# Altium footprint library User-Submitted.PCBLIB: 9 footprints
Each footprint in its own frame and in the unit in brackets; x right, y up, seen from the top. Pads: shape width x height; smd on the part's side, far side on the other; paste and mask are expansions set on the pad; w line width, h text height; cw(c..) or ccw(c..) is an arc to the next point about the centre after c.
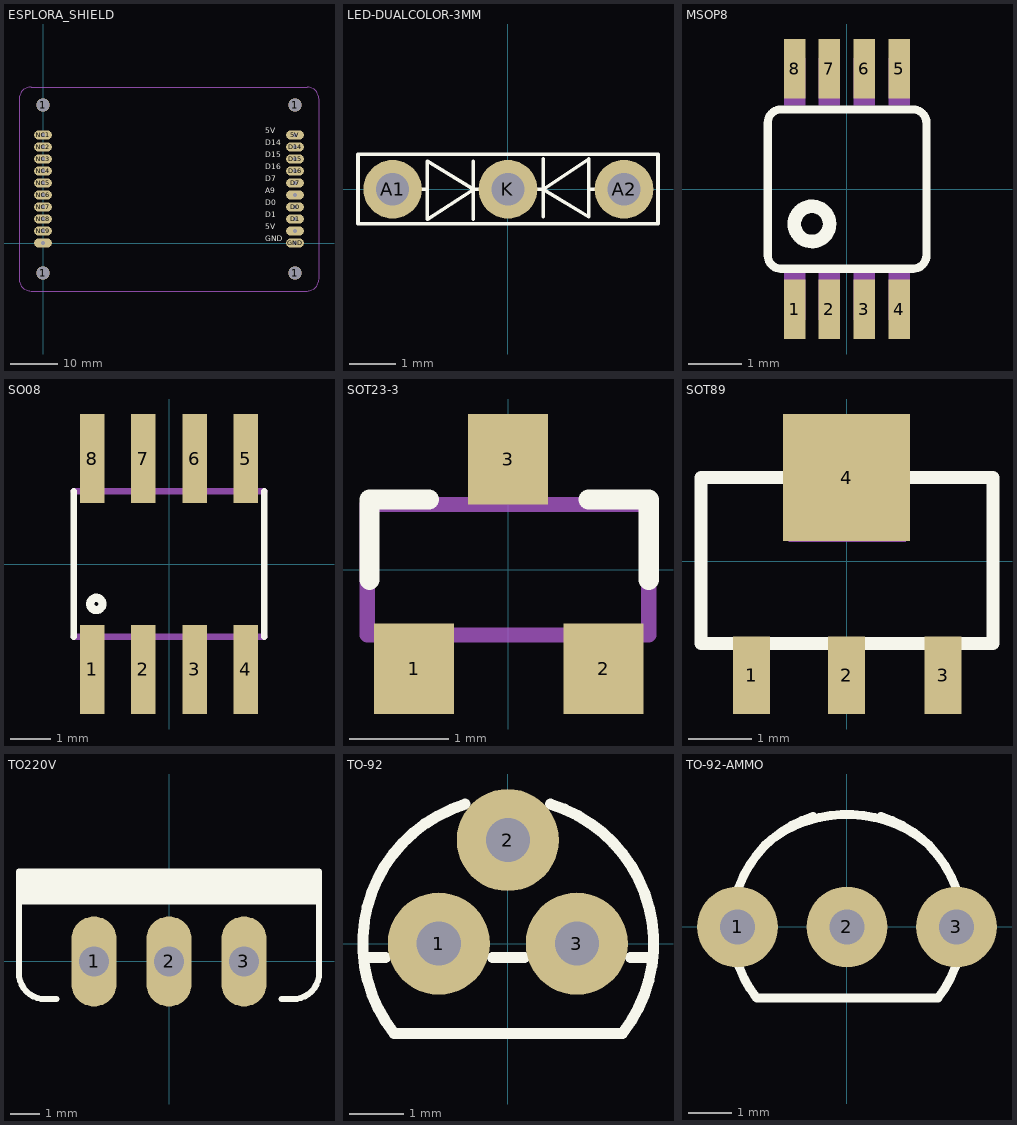
[diagram p0: the footprints below, top view; thin cyan lines are the x and y axes]

## ESPLORA_SHIELD [mil]
pads (24):
  round 111 hole 111: 1(0,-250) 1(0,1150) 1(2100,-250) 1(2100,1150)
  oval 148x74 hole 32: 5V(2100,900) 5V-1(2100,100) D0(2100,300) D1(2100,200) D7(2100,500) D8/A9(2100,400) D14(2100,800) D15(2100,700) D16(2100,600) GND(2100,0) NC1(0,900) NC2(0,800) NC3(0,700) NC4(0,600) NC5(0,500) NC6(0,400) NC7(0,300) NC8(0,200) NC9(0,100) NC10(0,0)
Top Overlay:
  text "5V" at 1850,900 h77.5
  text "D14" at 1850,800 h77.5
  text "D15" at 1850,700 h77.5
  text "D16" at 1850,600 h77.5
  text "D7" at 1850,500 h77.5
  text "A9" at 1850,400 h77.5
  text "D0" at 1850,300 h77.5
  text "D1" at 1850,200 h77.5
  text "5V" at 1850,100 h77.5
  text "GND" at 1850,0 h77.5
Mechanical 1:
  lines w5: -200,-300 -200,1200 cw(c-100,1200) -100,1300 2200,1300 cw(c2200,1200) 2300,1200 2300,-300 cw(c2200,-300) 2200,-400 -100,-400 cw(c-100,-300) -200,-300

## LED-DUALCOLOR-3MM [mil]
pads (3):
  round 50 hole 28: A1(-98.43,0) A2(99,0) K(0,0)
Top Overlay:
  lines w3: -78.74,0 -68.9,0 ; -29.53,-25.59 -29.53,0 ; -29.53,24 -29.53,0 ; -19.68,0 -29.53,0 ; 20,0 30,0 ; 30,-23.62 30,0 ; 30,26 30,0 ; 79,0 69,0 ; -68.9,0 -68.9,24 -29.53,0 ; -68.9,0 -68.9,-25.59 -29.53,0 ; 30,0 69,26 69,0 ; 30,0 69,-23.62 69,0 ; -127.95,-29.53 128,-29.53 128,30 -127.95,30 -127.95,-29.53

## MSOP8 [mil]
pads (8):
  rect 16x44 smd: 1(-38.39,-88.58) 2(-12.8,-88.58) 3(13,-88.58) 4(39,-88.58) 5(39,89) 6(13,89) 7(-12.8,89) 8(-38.39,89)
Top Overlay:
  circle w10: c-25.59,-25.59 r13
  lines w6: -58.27,-48.82 ccw(c-48.43,-48.82) -48.43,-58.66 ; -58.27,-48.43 -58.27,49 cw(c-48.35,49.08) -48.43,59 ; -48.03,-58.66 49,-58.66 ccw(c49.08,-48.74) 59,-48.82 59,49 ccw(c49,49) 49,59 -48.03,59
Mechanical 2:
  text ">NAME" at -100,-50 h24.8
Mechanical 4:
  text ">VALUE" at 100,-50 h24.8
Mechanical 16:
  rectangle: -46.26,-96.46 -30.51,-61.02
  rectangle: -20.67,-96.46 -4.92,-61.02
  rectangle: 5,-96.46 21,-61.02
  rectangle: 31,-96.46 47,-61.02
  rectangle: 31,62 47,97
  rectangle: 5,62 21,97
  rectangle: -20.67,62 -4.92,97
  rectangle: -46.26,62 -30.51,97

## SO08 [mil]
pads (8):
  rect 24x87 smd: 1(-75,-103) 2(-25,-103) 3(25,-103) 4(75,-103) 5(75,103) 6(25,103) 7(-25,103) 8(-75,103)
Top Overlay:
  circle w8: c-71,-39 r6
  lines w6: -92.99,-70.98 -92.99,71 ; 93,-70.98 93,71
Mechanical 2:
  text ">NAME" at -50,0 h24.8
Mechanical 4:
  text ">VALUE" at -50,-25 h24.8
Mechanical 16:
  rectangle: -82,-113 -68,-73
  rectangle: -32,-113 -18,-73
  rectangle: 18,-113 32,-73
  rectangle: 68,-113 82,-73
  rectangle: -82,73 -68,113
  rectangle: -32,73 -18,113
  rectangle: 18,73 32,113
  rectangle: 68,73 82,113
  lines w6: -92.99,-70.98 93,-70.98 ; -92.99,71 93,71

## SOT23-3 [mil]
pads (3):
  rect 32x36 smd: 1(-37.4,-39.37) 2(38,-39.37) 3(0,44)
Top Overlay:
  lines w8: -55.12,-3.94 -55.12,28 -31.5,28 ; 32,28 56,28 56,-3.94
Mechanical 2:
  text ">NAME" at -32.5,70 h24.8
Mechanical 4:
  text ">VALUE" at -40,-7.5 h24.8
Mechanical 16:
  lines w6: -56,-26 56,-26 56,26 -56,26 -56,-26

## SOT89 [mil]
pads (4):
  rect 23x48 smd: 1(-59.06,-70.87) 2(0,-70.87) 3(60,-70.87)
  rect 79x79 smd: 4(0,52)
Top Overlay:
  lines w8: -90.55,-51.18 91,-51.18 91,52 -90.55,52 -90.55,-51.18
Mechanical 2:
  text ">NAME" at -99.15,-37.62 h24.8
Mechanical 4:
  text ">VALUE" at 118,-44.47 h24.8
Mechanical 16:
  rectangle: -36.02,12 37,85
  rectangle: -68.5,-87.8 -49.61,-50
  rectangle: -9.45,-87.8 10,-50
  rectangle: 50,-87.8 69,-50

## TO220V [mil]
pads (3):
  oval 60x120 hole 40: 1(-100,0) 2(0,0) 3(100,0)
Top Overlay:
  rectangle: -200,80 200,120
  lines w8: -150,-50 -165,-50 cw(c-165.83,-15.83) -200,-15 -200,80 ; 150,-50 165,-50 ccw(c165.83,-15.83) 200,-15 200,80 ; -200,80 200,80 ; -200,80 -200,120 200,120 200,80
Mechanical 2:
  text ">NAME" at -110,135 h77.5
Mechanical 4:
  text ">VALUE" at -130,-130 h77.5

## TO-92 [mil]
pads (3):
  round 74 hole 32: 1(-50,0) 2(0,75) 3(50,0)
Top Overlay:
  lines w8: -104.52,-10 -88.73,-10 ; -30.96,101 ccw(c0.23,0.33) -82.46,-65 83,-65 ccw(c0.06,0.16) 31,101 ; -11.27,-10 12,-10 ; 89,-10 105,-10
Mechanical 2:
  text ">NAME" at 125,25 h24.8
Mechanical 4:
  text ">VALUE" at 125,-50 h24.8

## TO-92-AMMO [mil]
pads (3):
  round 74 hole 32: 1(-100,0) 2(0,0) 3(100,0)
Top Overlay:
  lines w8: -75,75 cw(c0,-12.5) 25,100 ; -30.96,101 ccw(c0.23,0.33) -82.46,-65 83,-65 ccw(c0.06,0.16) 31,101 ; -25,100 cw(c0,-12.5) 25,100 ; 75,75 ccw(c0,-12.5) 25,100
Mechanical 2:
  text ">NAME" at 125,75 h24.8
Mechanical 4:
  text ">VALUE" at 125,-75 h24.8